# Altium footprint library SJ-43514-SMT-TR.PcbLib: 1 footprints
Each footprint in its own frame and in the unit in brackets; x right, y up, seen from the top. Pads: shape width x height; smd on the part's side, far side on the other; paste and mask are expansions set on the pad; w line width, h text height; cw(c..) or ccw(c..) is an arc to the next point about the centre after c.
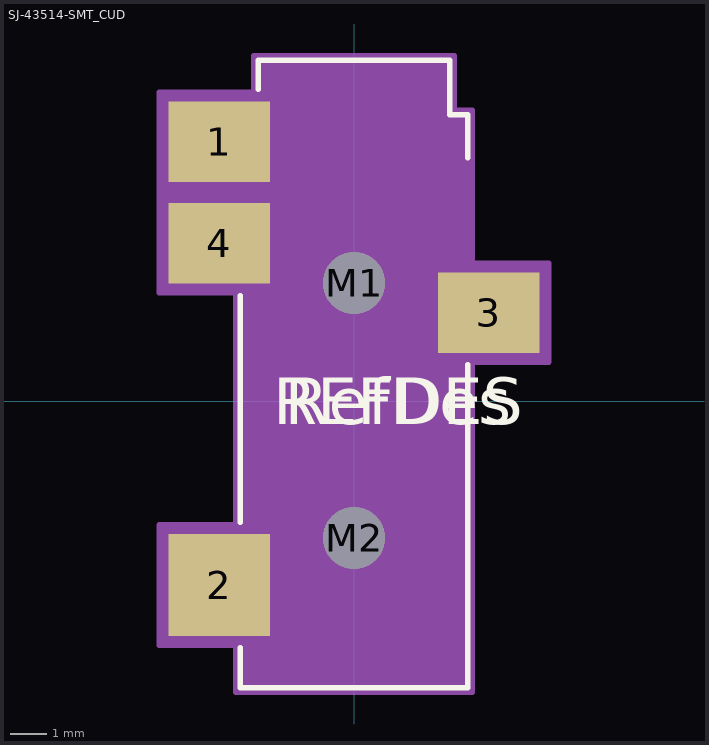
[diagram p0: the footprint, top view; thin cyan lines are the x and y axes]

## SJ-43514-SMT_CUD [mil]
pads (6):
  rect 110x87 smd paste+0 mask+0: 1(-145.7,281) 3(145.7,96) 4(-145.7,171)
  rect 110x110 smd paste+0 mask+0: 2(-145.7,-199)
  round 67 / inner round 60 / far side round 67 hole 67 unplated paste+0 mask+0: M1(0,128) M2(0,-148)
Top Overlay:
  lines w6: -123,-267.1 -123,-310 123,-310 123,39.4 ; -123,-130.9 -123,114.4 ; -103.5,337.6 -103.5,369 103.5,369 103.5,310 123,310 123,263.6
  text "REFDES" at -87.5,-25 h50
  text "RefDes" at -75,-25 h50
Mechanical 13:
  lines w1: -118,-228.5 -177,-228.5 -177,-169.5 -118,-169.5 ; -118,155.5 -177,155.5 -177,186.5 -118,186.5 ; -118,265.5 -177,265.5 -177,296.5 -118,296.5 ; 118,76.5 177,76.5 177,115.5 118,115.5 ; -118,-305 -118,305 118,305 118,-305 -118,-305 ; -98.5,305 98.5,305 98.5,364 -98.5,364 -98.5,305
  text "*" at -258.2,256 h50
  text "RefDes2" at -87.5,-25 h50
Mechanical 15:
  region: -128,117.5 -128,-134 -210.7,-134 -210.7,-264 -128,-264 -128,-315 128,-315 128,42.5 210.7,42.5 210.7,149.5 128,149.5 128,315 108.5,315 108.5,374 -108.5,374 -108.5,334.5 -210.7,334.5 -210.7,227.5 -128,227.5 -128,224.5 -210.7,224.5 -210.7,117.5
  lines w6: -210.7,-264 -210.7,-134 -128,-134 -128,117.5 -210.7,117.5 -210.7,224.5 -128,224.5 -128,227.5 -210.7,227.5 -210.7,334.5 -108.5,334.5 -108.5,374 108.5,374 108.5,315 128,315 128,149.5 210.7,149.5 210.7,42.5 128,42.5 128,-315 -128,-315 -128,-264 -210.7,-264